# Altium schematic symbol library LM337IMPX_NOPB.Schlib: 1 symbol
Pins are listed as number, name and electrical type; pins without a type are passive.

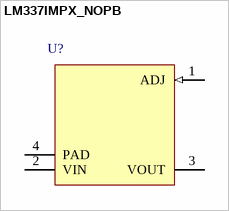
[diagram p0: symbol LM337IMPX_NOPB]

## LM337IMPX_NOPB
designator U?
pins: 1 ADJ (in), 2 VIN (power), 3 VOUT (power), 4 PAD (power)